# Altium integrated library Capacitor - Aluminium TH.IntLib: 4591 symbols (part 25 of 68)
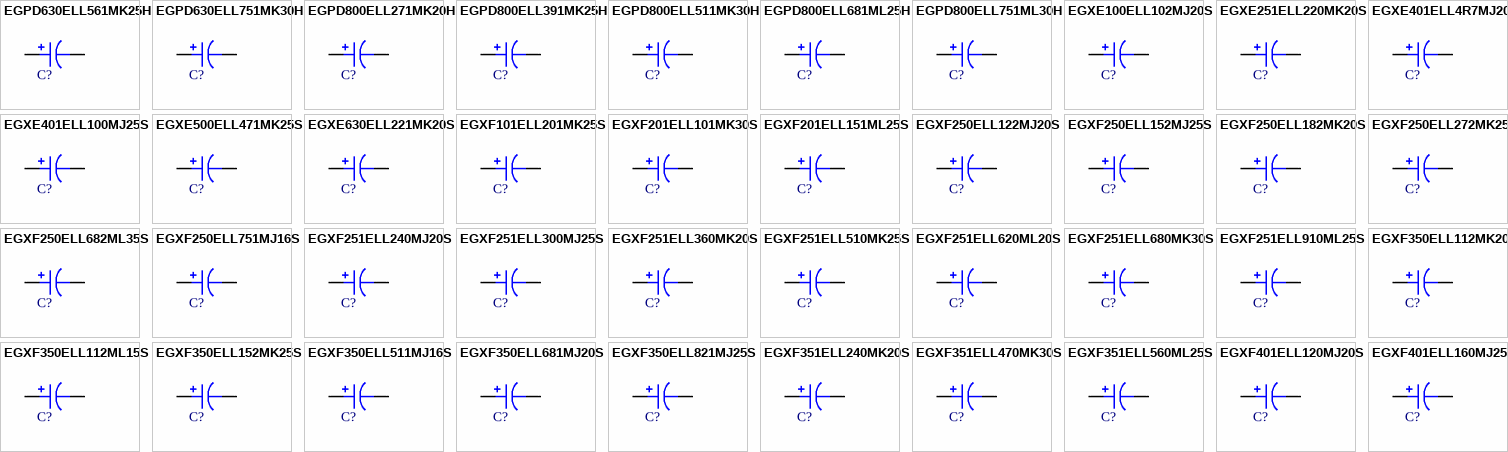
[diagram p138: symbols EGPD630ELL561MK25H to EGXF401ELL160MJ25S]

## EGXF350ELL112MK20S
designator C?, comment 1100uF  (value not drawn)
CAP MINI ALUM ELECTRO; Part Number: EGXF350ELL112MK20S; Manufacturer: United Chemi-Con; TemperatureRange: -40C ~ 125C; Tolerance: 20%; Voltage: 35V; Type: Polar; Ripple Current: 954mA @ 120Hz; Value: 1100uF; PartId: 23063; Supplier 1: Digi-Key; Supplier Part Number 1: 565-4577-ND; ComponentLink1Description: Datasheet; ComponentLink1URL: http://www.chemi-con.co.jp/cgi-bin/CAT_DB/SEARCH/cat_db_al.cgi?e=e&j=p&pdfname=gxf; ComponentLink2Description: Digi-Key Listing; ComponentLink2URL: https://www.digikey.com/product-detail/en/united-chemi-con/EGXF350ELL112MK20S/565-4577-ND/6204428; Price: 0; Device Package: Radial, Can, 12.5mm
footprint CAP AL TH D12.5 L5 H21.5
pins: 1, 2

## EGXF350ELL112ML15S
designator C?, comment 1100uF  (value not drawn)
CAP MINI ALUM ELECTRO; Part Number: EGXF350ELL112ML15S; Manufacturer: United Chemi-Con; TemperatureRange: -40C ~ 125C; Tolerance: 20%; Voltage: 35V; Type: Polar; Ripple Current: 858mA @ 120Hz; Value: 1100uF; PartId: 26224; Supplier 1: Digi-Key; Supplier Part Number 1: 565-4578-ND; ComponentLink1Description: Datasheet; ComponentLink1URL: http://www.chemi-con.co.jp/cgi-bin/CAT_DB/SEARCH/cat_db_al.cgi?e=e&j=p&pdfname=gxf; ComponentLink2Description: Digi-Key Listing; ComponentLink2URL: https://www.digikey.com/product-detail/en/united-chemi-con/EGXF350ELL112ML15S/565-4578-ND/6204429; Price: 1.78; Device Package: Radial, Can, 16mm
footprint CAP AL TH D16 L7.5 H16.5
pins: 1, 2

## EGXF350ELL152MK25S
designator C?, comment 1500uF  (value not drawn)
CAP MINI ALUM ELECTRO; Part Number: EGXF350ELL152MK25S; Manufacturer: United Chemi-Con; TemperatureRange: -40C ~ 125C; Tolerance: 20%; Voltage: 35V; Type: Polar; Ripple Current: 1.368A @ 120Hz; Value: 1500uF; PartId: 23763; Supplier 1: Digi-Key; Supplier Part Number 1: 565-4580-ND; ComponentLink1Description: Datasheet; ComponentLink1URL: http://www.chemi-con.co.jp/cgi-bin/CAT_DB/SEARCH/cat_db_al.cgi?e=e&j=p&pdfname=gxf; ComponentLink2Description: Digi-Key Listing; ComponentLink2URL: https://www.digikey.com/product-detail/en/united-chemi-con/EGXF350ELL152MK25S/565-4580-ND/6204431; Price: 1.79; Device Package: Radial, Can, 12.5mm
footprint CAP AL TH D12.5 L5 H26.5
pins: 1, 2

## EGXF350ELL511MJ16S
designator C?, comment 510uF  (value not drawn)
CAP MINI ALUM ELECTRO; Part Number: EGXF350ELL511MJ16S; Manufacturer: United Chemi-Con; TemperatureRange: -40C ~ 125C; Tolerance: 20%; Voltage: 35V; Type: Polar; Ripple Current: 650mA @ 120Hz; Value: 510uF; PartId: 25426; Supplier 1: Digi-Key; Supplier Part Number 1: 565-4584-ND; ComponentLink1Description: Datasheet; ComponentLink1URL: http://www.chemi-con.co.jp/cgi-bin/CAT_DB/SEARCH/cat_db_al.cgi?e=e&j=p&pdfname=gxf; ComponentLink2Description: Digi-Key Listing; ComponentLink2URL: https://www.digikey.com/product-detail/en/united-chemi-con/EGXF350ELL511MJ16S/565-4584-ND/6204423; Price: 1.09; Device Package: Radial, Can, 10mm
footprint CAP AL TH D10 L5 H17.5
pins: 1, 2

## EGXF350ELL681MJ20S
designator C?, comment 680uF  (value not drawn)
CAP MINI ALUM ELECTRO; Part Number: EGXF350ELL681MJ20S; Manufacturer: United Chemi-Con; TemperatureRange: -40C ~ 125C; Tolerance: 20%; Voltage: 35V; Type: Polar; Ripple Current: 924mA @ 120Hz; Value: 680uF; PartId: 25717; Supplier 1: Digi-Key; Supplier Part Number 1: 565-4586-ND; ComponentLink1Description: Datasheet; ComponentLink1URL: http://www.chemi-con.co.jp/cgi-bin/CAT_DB/SEARCH/cat_db_al.cgi?e=e&j=p&pdfname=gxf; ComponentLink2Description: Digi-Key Listing; ComponentLink2URL: https://www.digikey.com/product-detail/en/united-chemi-con/EGXF350ELL681MJ20S/565-4586-ND/6204425; Price: 1.3; Device Package: Radial, Can, 10mm
footprint CAP AL TH D10 L5 H22
pins: 1, 2

## EGXF350ELL821MJ25S
designator C?, comment 820uF  (value not drawn)
CAP MINI ALUM ELECTRO; Part Number: EGXF350ELL821MJ25S; Manufacturer: United Chemi-Con; TemperatureRange: -40C ~ 125C; Tolerance: 20%; Voltage: 35V; Type: Polar; Ripple Current: 1.128A @ 120Hz; Value: 820uF; PartId: 26191; Supplier 1: Digi-Key; Supplier Part Number 1: 565-4587-ND; ComponentLink1Description: Datasheet; ComponentLink1URL: http://www.chemi-con.co.jp/cgi-bin/CAT_DB/SEARCH/cat_db_al.cgi?e=e&j=p&pdfname=gxf; ComponentLink2Description: Digi-Key Listing; ComponentLink2URL: https://www.digikey.com/product-detail/en/united-chemi-con/EGXF350ELL821MJ25S/565-4587-ND/6204427; Price: 1.36; Device Package: Radial, Can, 10mm
footprint CAP AL TH D10 L5 H30
pins: 1, 2

## EGXF351ELL240MK20S
designator C?, comment 24uF  (value not drawn)
CAP MINI ALUM ELECTRO; Part Number: EGXF351ELL240MK20S; Manufacturer: United Chemi-Con; TemperatureRange: -40C ~ 125C; Tolerance: 20%; Voltage: 350V; Type: Polar; Ripple Current: 204mA @ 120Hz; Value: 24uF; PartId: 23066; Supplier 1: Digi-Key; Supplier Part Number 1: 565-4588-ND; ComponentLink1Description: Datasheet; ComponentLink1URL: http://www.chemi-con.co.jp/cgi-bin/CAT_DB/SEARCH/cat_db_al.cgi?e=e&j=p&pdfname=gxf; ComponentLink2Description: Digi-Key Listing; ComponentLink2URL: https://www.digikey.com/product-detail/en/united-chemi-con/EGXF351ELL240MK20S/565-4588-ND/6204599; Price: 0; Device Package: Radial, Can, 12.5mm
footprint CAP AL TH D12.5 L5 H21.5
pins: 1, 2

## EGXF351ELL470MK30S
designator C?, comment 47uF  (value not drawn)
CAP MINI ALUM ELECTRO; Part Number: EGXF351ELL470MK30S; Manufacturer: United Chemi-Con; TemperatureRange: -40C ~ 125C; Tolerance: 20%; Voltage: 350V; Type: Polar; Ripple Current: 423.5mA @ 120Hz; Value: 47uF; PartId: 24427; Supplier 1: Digi-Key; Supplier Part Number 1: 565-4592-ND; ComponentLink1Description: Datasheet; ComponentLink1URL: http://www.chemi-con.co.jp/cgi-bin/CAT_DB/SEARCH/cat_db_al.cgi?e=e&j=p&pdfname=gxf; ComponentLink2Description: Digi-Key Listing; ComponentLink2URL: https://www.digikey.com/product-detail/en/united-chemi-con/EGXF351ELL470MK30S/565-4592-ND/6204606; Price: 2.46; Device Package: Radial, Can, 12.5mm
footprint CAP AL TH D12.5 L5 H35.5
pins: 1, 2

## EGXF351ELL560ML25S
designator C?, comment 56uF  (value not drawn)
CAP MINI ALUM ELECTRO; Part Number: EGXF351ELL560ML25S; Manufacturer: United Chemi-Con; TemperatureRange: -40C ~ 125C; Tolerance: 20%; Voltage: 350V; Type: Polar; Ripple Current: 395.5mA @ 120Hz; Value: 56uF; PartId: 26725; Supplier 1: Digi-Key; Supplier Part Number 1: 565-4594-ND; ComponentLink1Description: Datasheet; ComponentLink1URL: http://www.chemi-con.co.jp/cgi-bin/CAT_DB/SEARCH/cat_db_al.cgi?e=e&j=p&pdfname=gxf; ComponentLink2Description: Digi-Key Listing; ComponentLink2URL: https://www.digikey.com/product-detail/en/united-chemi-con/EGXF351ELL560ML25S/565-4594-ND/6204609; Price: 2.83; Device Package: Radial, Can, 16mm
footprint CAP AL TH D16 L7.5 H26.5
pins: 1, 2

## EGXF401ELL120MJ20S
designator C?, comment 12uF  (value not drawn)
CAP MINI ALUM ELECTRO; Part Number: EGXF401ELL120MJ20S; Manufacturer: United Chemi-Con; TemperatureRange: -40C ~ 125C; Tolerance: 20%; Voltage: 400V; Type: Polar; Ripple Current: 138mA @ 120Hz; Value: 12uF; PartId: 25718; Supplier 1: Digi-Key; Supplier Part Number 1: 565-4599-ND; ComponentLink1Description: Datasheet; ComponentLink1URL: http://www.chemi-con.co.jp/cgi-bin/CAT_DB/SEARCH/cat_db_al.cgi?e=e&j=p&pdfname=gxf; ComponentLink2Description: Digi-Key Listing; ComponentLink2URL: https://www.digikey.com/product-detail/en/united-chemi-con/EGXF401ELL120MJ20S/565-4599-ND/6204616; Price: 1.31; Device Package: Radial, Can, 10mm
footprint CAP AL TH D10 L5 H22
pins: 1, 2

## EGXF401ELL160MJ25S
designator C?, comment 16uF  (value not drawn)
CAP MINI ALUM ELECTRO; Part Number: EGXF401ELL160MJ25S; Manufacturer: United Chemi-Con; TemperatureRange: -40C ~ 125C; Tolerance: 20%; Voltage: 400V; Type: Polar; Ripple Current: 183mA @ 120Hz; Value: 16uF; PartId: 26195; Supplier 1: Digi-Key; Supplier Part Number 1: 565-4600-ND; ComponentLink1Description: Datasheet; ComponentLink1URL: http://www.chemi-con.co.jp/cgi-bin/CAT_DB/SEARCH/cat_db_al.cgi?e=e&j=p&pdfname=gxf; ComponentLink2Description: Digi-Key Listing; ComponentLink2URL: https://www.digikey.com/product-detail/en/united-chemi-con/EGXF401ELL160MJ25S/565-4600-ND/6204617; Price: 1.46; Device Package: Radial, Can, 10mm
footprint CAP AL TH D10 L5 H30
pins: 1, 2

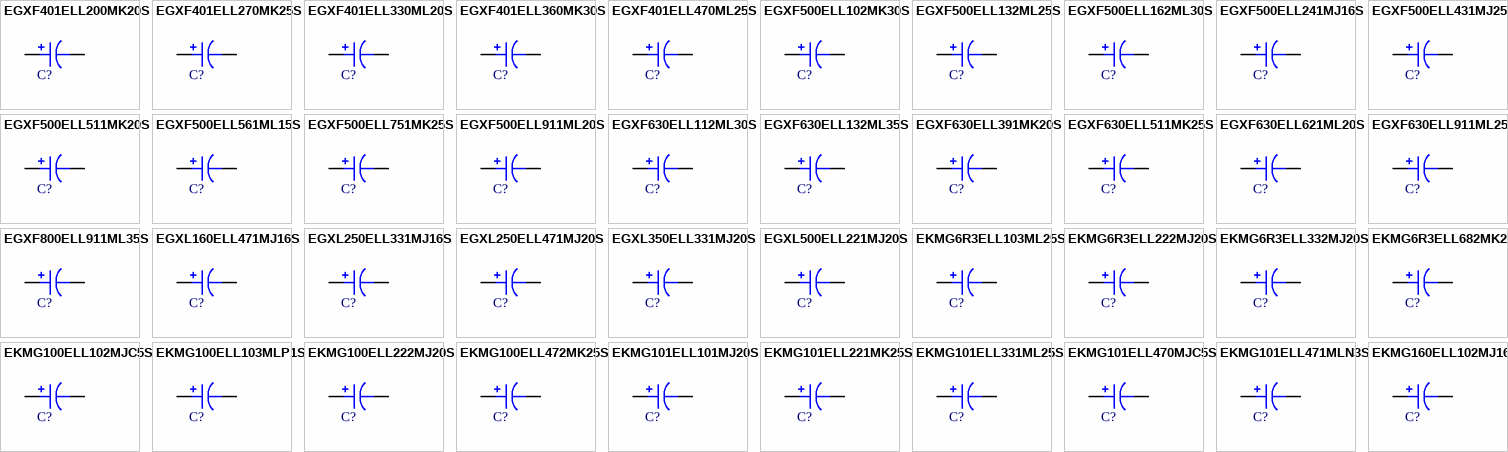
[diagram p40: symbols EGXF401ELL200MK20S to EKMG160ELL102MJ16S]

## EGXF401ELL200MK20S
designator C?, comment 20uF  (value not drawn)
CAP MINI ALUM ELECTRO; Part Number: EGXF401ELL200MK20S; Manufacturer: United Chemi-Con; TemperatureRange: -40C ~ 125C; Tolerance: 20%; Voltage: 400V; Type: Polar; Ripple Current: 204mA @ 120Hz; Value: 20uF; PartId: 23071; Supplier 1: Digi-Key; Supplier Part Number 1: 565-4602-ND; ComponentLink1Description: Datasheet; ComponentLink1URL: http://www.chemi-con.co.jp/cgi-bin/CAT_DB/SEARCH/cat_db_al.cgi?e=e&j=p&pdfname=gxf; ComponentLink2Description: Digi-Key Listing; ComponentLink2URL: https://www.digikey.com/product-detail/en/united-chemi-con/EGXF401ELL200MK20S/565-4602-ND/6204619; Price: 0; Device Package: Radial, Can, 12.5mm
footprint CAP AL TH D12.5 L5 H21.5
pins: 1, 2

## EGXF401ELL270MK25S
designator C?, comment 27uF  (value not drawn)
CAP MINI ALUM ELECTRO; Part Number: EGXF401ELL270MK25S; Manufacturer: United Chemi-Con; TemperatureRange: -40C ~ 125C; Tolerance: 20%; Voltage: 400V; Type: Polar; Ripple Current: 294mA @ 120Hz; Value: 27uF; PartId: 23771; Supplier 1: Digi-Key; Supplier Part Number 1: 565-4605-ND; ComponentLink1Description: Datasheet; ComponentLink1URL: http://www.chemi-con.co.jp/cgi-bin/CAT_DB/SEARCH/cat_db_al.cgi?e=e&j=p&pdfname=gxf; ComponentLink2Description: Digi-Key Listing; ComponentLink2URL: https://www.digikey.com/product-detail/en/united-chemi-con/EGXF401ELL270MK25S/565-4605-ND/6204622; Price: 1.92; Device Package: Radial, Can, 12.5mm
footprint CAP AL TH D12.5 L5 H26.5
pins: 1, 2

## EGXF401ELL330ML20S
designator C?, comment 33uF  (value not drawn)
CAP MINI ALUM ELECTRO; Part Number: EGXF401ELL330ML20S; Manufacturer: United Chemi-Con; TemperatureRange: -40C ~ 125C; Tolerance: 20%; Voltage: 400V; Type: Polar; Ripple Current: 291mA @ 120Hz; Value: 33uF; PartId: 26507; Supplier 1: Digi-Key; Supplier Part Number 1: 565-4607-ND; ComponentLink1Description: Datasheet; ComponentLink1URL: http://www.chemi-con.co.jp/cgi-bin/CAT_DB/SEARCH/cat_db_al.cgi?e=e&j=p&pdfname=gxf; ComponentLink2Description: Digi-Key Listing; ComponentLink2URL: https://www.digikey.com/product-detail/en/united-chemi-con/EGXF401ELL330ML20S/565-4607-ND/6204624; Price: 2.52; Device Package: Radial, Can, 16mm
footprint CAP AL TH D16 L7.5 H22
pins: 1, 2

## EGXF401ELL360MK30S
designator C?, comment 36uF  (value not drawn)
CAP MINI ALUM ELECTRO; Part Number: EGXF401ELL360MK30S; Manufacturer: United Chemi-Con; TemperatureRange: -40C ~ 125C; Tolerance: 20%; Voltage: 400V; Type: Polar; Ripple Current: 423.5mA @ 120Hz; Value: 36uF; PartId: 24422; Supplier 1: Digi-Key; Supplier Part Number 1: 565-4608-ND; ComponentLink1Description: Datasheet; ComponentLink1URL: http://www.chemi-con.co.jp/cgi-bin/CAT_DB/SEARCH/cat_db_al.cgi?e=e&j=p&pdfname=gxf; ComponentLink2Description: Digi-Key Listing; ComponentLink2URL: https://www.digikey.com/product-detail/en/united-chemi-con/EGXF401ELL360MK30S/565-4608-ND/6204625; Price: 2.35; Device Package: Radial, Can, 12.5mm
footprint CAP AL TH D12.5 L5 H35.5
pins: 1, 2

## EGXF401ELL470ML25S
designator C?, comment 47uF  (value not drawn)
CAP MINI ALUM ELECTRO; Part Number: EGXF401ELL470ML25S; Manufacturer: United Chemi-Con; TemperatureRange: -40C ~ 125C; Tolerance: 20%; Voltage: 400V; Type: Polar; Ripple Current: 395.5mA @ 120Hz; Value: 47uF; PartId: 26729; Supplier 1: Digi-Key; Supplier Part Number 1: 565-4612-ND; ComponentLink1Description: Datasheet; ComponentLink1URL: http://www.chemi-con.co.jp/cgi-bin/CAT_DB/SEARCH/cat_db_al.cgi?e=e&j=p&pdfname=gxf; ComponentLink2Description: Digi-Key Listing; ComponentLink2URL: https://www.digikey.com/product-detail/en/united-chemi-con/EGXF401ELL470ML25S/565-4612-ND/6204630; Price: 3.02; Device Package: Radial, Can, 16mm
footprint CAP AL TH D16 L7.5 H26.5
pins: 1, 2

## EGXF500ELL102MK30S
designator C?, comment 1000uF  (value not drawn)
CAP MINI ALUM ELECTRO; Part Number: EGXF500ELL102MK30S; Manufacturer: United Chemi-Con; TemperatureRange: -40C ~ 125C; Tolerance: 20%; Voltage: 50V; Type: Polar; Ripple Current: 1.506A @ 120Hz; Value: 1000uF; PartId: 24416; Supplier 1: Digi-Key; Supplier Part Number 1: 565-4618-ND; ComponentLink1Description: Datasheet; ComponentLink1URL: http://www.chemi-con.co.jp/cgi-bin/CAT_DB/SEARCH/cat_db_al.cgi?e=e&j=p&pdfname=gxf; ComponentLink2Description: Digi-Key Listing; ComponentLink2URL: https://www.digikey.com/product-detail/en/united-chemi-con/EGXF500ELL102MK30S/565-4618-ND/6204464; Price: 2.14; Device Package: Radial, Can, 12.5mm
footprint CAP AL TH D12.5 L5 H35.5
pins: 1, 2

## EGXF500ELL132ML25S
designator C?, comment 1300uF  (value not drawn)
CAP MINI ALUM ELECTRO; Part Number: EGXF500ELL132ML25S; Manufacturer: United Chemi-Con; TemperatureRange: -40C ~ 125C; Tolerance: 20%; Voltage: 50V; Type: Polar; Ripple Current: 1.614A @ 120Hz; Value: 1300uF; PartId: 26719; Supplier 1: Digi-Key; Supplier Part Number 1: 565-4621-ND; ComponentLink1Description: Datasheet; ComponentLink1URL: http://www.chemi-con.co.jp/cgi-bin/CAT_DB/SEARCH/cat_db_al.cgi?e=e&j=p&pdfname=gxf; ComponentLink2Description: Digi-Key Listing; ComponentLink2URL: https://www.digikey.com/product-detail/en/united-chemi-con/EGXF500ELL132ML25S/565-4621-ND/6204469; Price: 2.71; Device Package: Radial, Can, 16mm
footprint CAP AL TH D16 L7.5 H26.5
pins: 1, 2

## EGXF500ELL162ML30S
designator C?, comment 1600uF  (value not drawn)
CAP MINI ALUM ELECTRO; Part Number: EGXF500ELL162ML30S; Manufacturer: United Chemi-Con; TemperatureRange: -40C ~ 125C; Tolerance: 20%; Voltage: 50V; Type: Polar; Ripple Current: 1.89A @ 120Hz; Value: 1600uF; PartId: 27275; Supplier 1: Digi-Key; Supplier Part Number 1: 565-4622-ND; ComponentLink1Description: Datasheet; ComponentLink1URL: http://www.chemi-con.co.jp/cgi-bin/CAT_DB/SEARCH/cat_db_al.cgi?e=e&j=p&pdfname=gxf; ComponentLink2Description: Digi-Key Listing; ComponentLink2URL: https://www.digikey.com/product-detail/en/united-chemi-con/EGXF500ELL162ML30S/565-4622-ND/6204472; Price: 3.12; Device Package: Radial, Can, 16mm
footprint CAP AL TH D16 L7.5 H33.5
pins: 1, 2

## EGXF500ELL241MJ16S
designator C?, comment 240uF  (value not drawn)
CAP MINI ALUM ELECTRO; Part Number: EGXF500ELL241MJ16S; Manufacturer: United Chemi-Con; TemperatureRange: -40C ~ 125C; Tolerance: 20%; Voltage: 50V; Type: Polar; Ripple Current: 432mA @ 120Hz; Value: 240uF; PartId: 25417; Supplier 1: Digi-Key; Supplier Part Number 1: 565-4625-ND; ComponentLink1Description: Datasheet; ComponentLink1URL: http://www.chemi-con.co.jp/cgi-bin/CAT_DB/SEARCH/cat_db_al.cgi?e=e&j=p&pdfname=gxf; ComponentLink2Description: Digi-Key Listing; ComponentLink2URL: https://www.digikey.com/product-detail/en/united-chemi-con/EGXF500ELL241MJ16S/565-4625-ND/6204452; Price: 0.98; Device Package: Radial, Can, 10mm
footprint CAP AL TH D10 L5 H17.5
pins: 1, 2

## EGXF500ELL431MJ25S
designator C?, comment 430uF  (value not drawn)
CAP MINI ALUM ELECTRO; Part Number: EGXF500ELL431MJ25S; Manufacturer: United Chemi-Con; TemperatureRange: -40C ~ 125C; Tolerance: 20%; Voltage: 50V; Type: Polar; Ripple Current: 870mA @ 120Hz; Value: 430uF; PartId: 26192; Supplier 1: Digi-Key; Supplier Part Number 1: 565-4629-ND; ComponentLink1Description: Datasheet; ComponentLink1URL: http://www.chemi-con.co.jp/cgi-bin/CAT_DB/SEARCH/cat_db_al.cgi?e=e&j=p&pdfname=gxf; ComponentLink2Description: Digi-Key Listing; ComponentLink2URL: https://www.digikey.com/product-detail/en/united-chemi-con/EGXF500ELL431MJ25S/565-4629-ND/6204456; Price: 1.38; Device Package: Radial, Can, 10mm
footprint CAP AL TH D10 L5 H30
pins: 1, 2

## EGXF500ELL511MK20S
designator C?, comment 510uF  (value not drawn)
CAP MINI ALUM ELECTRO; Part Number: EGXF500ELL511MK20S; Manufacturer: United Chemi-Con; TemperatureRange: -40C ~ 125C; Tolerance: 20%; Voltage: 50V; Type: Polar; Ripple Current: 705mA @ 120Hz; Value: 510uF; PartId: 23060; Supplier 1: Digi-Key; Supplier Part Number 1: 565-4630-ND; ComponentLink1Description: Datasheet; ComponentLink1URL: http://www.chemi-con.co.jp/cgi-bin/CAT_DB/SEARCH/cat_db_al.cgi?e=e&j=p&pdfname=gxf; ComponentLink2Description: Digi-Key Listing; ComponentLink2URL: https://www.digikey.com/product-detail/en/united-chemi-con/EGXF500ELL511MK20S/565-4630-ND/6204457; Price: 0; Device Package: Radial, Can, 12.5mm
footprint CAP AL TH D12.5 L5 H21.5
pins: 1, 2

## EGXF500ELL561ML15S
designator C?, comment 560uF  (value not drawn)
CAP MINI ALUM ELECTRO; Part Number: EGXF500ELL561ML15S; Manufacturer: United Chemi-Con; TemperatureRange: -40C ~ 125C; Tolerance: 20%; Voltage: 50V; Type: Polar; Ripple Current: 595mA @ 120Hz; Value: 560uF; PartId: 26223; Supplier 1: Digi-Key; Supplier Part Number 1: 565-4632-ND; ComponentLink1Description: Datasheet; ComponentLink1URL: http://www.chemi-con.co.jp/cgi-bin/CAT_DB/SEARCH/cat_db_al.cgi?e=e&j=p&pdfname=gxf; ComponentLink2Description: Digi-Key Listing; ComponentLink2URL: https://www.digikey.com/product-detail/en/united-chemi-con/EGXF500ELL561ML15S/565-4632-ND/6204459; Price: 1.71; Device Package: Radial, Can, 16mm
footprint CAP AL TH D16 L7.5 H16.5
pins: 1, 2

## EGXF500ELL751MK25S
designator C?, comment 750uF  (value not drawn)
CAP MINI ALUM ELECTRO; Part Number: EGXF500ELL751MK25S; Manufacturer: United Chemi-Con; TemperatureRange: -40C ~ 125C; Tolerance: 20%; Voltage: 50V; Type: Polar; Ripple Current: 1.218A @ 120Hz; Value: 750uF; PartId: 23749; Supplier 1: Digi-Key; Supplier Part Number 1: 565-4633-ND; ComponentLink1Description: Datasheet; ComponentLink1URL: http://www.chemi-con.co.jp/cgi-bin/CAT_DB/SEARCH/cat_db_al.cgi?e=e&j=p&pdfname=gxf; ComponentLink2Description: Digi-Key Listing; ComponentLink2URL: https://www.digikey.com/product-detail/en/united-chemi-con/EGXF500ELL751MK25S/565-4633-ND/6204461; Price: 1.72; Device Package: Radial, Can, 12.5mm
footprint CAP AL TH D12.5 L5 H26.5
pins: 1, 2

## EGXF500ELL911ML20S
designator C?, comment 910uF  (value not drawn)
CAP MINI ALUM ELECTRO; Part Number: EGXF500ELL911ML20S; Manufacturer: United Chemi-Con; TemperatureRange: -40C ~ 125C; Tolerance: 20%; Voltage: 50V; Type: Polar; Ripple Current: 1.044A @ 120Hz; Value: 910uF; PartId: 26497; Supplier 1: Digi-Key; Supplier Part Number 1: 565-4635-ND; ComponentLink1Description: Datasheet; ComponentLink1URL: http://www.chemi-con.co.jp/cgi-bin/CAT_DB/SEARCH/cat_db_al.cgi?e=e&j=p&pdfname=gxf; ComponentLink2Description: Digi-Key Listing; ComponentLink2URL: https://www.digikey.com/product-detail/en/united-chemi-con/EGXF500ELL911ML20S/565-4635-ND/6204463; Price: 2.2; Device Package: Radial, Can, 16mm
footprint CAP AL TH D16 L7.5 H22
pins: 1, 2

## EGXF630ELL112ML30S
designator C?, comment 1100uF  (value not drawn)
CAP MINI ALUM ELECTRO; Part Number: EGXF630ELL112ML30S; Manufacturer: United Chemi-Con; TemperatureRange: -40C ~ 125C; Tolerance: 20%; Voltage: 63V; Type: Polar; Ripple Current: 1.764A @ 120Hz; Value: 1100uF; PartId: 27282; Supplier 1: Digi-Key; Supplier Part Number 1: 565-4636-ND; ComponentLink1Description: Datasheet; ComponentLink1URL: http://www.chemi-con.co.jp/cgi-bin/CAT_DB/SEARCH/cat_db_al.cgi?e=e&j=p&pdfname=gxf; ComponentLink2Description: Digi-Key Listing; ComponentLink2URL: https://www.digikey.com/product-detail/en/united-chemi-con/EGXF630ELL112ML30S/565-4636-ND/6204492; Price: 3.2; Device Package: Radial, Can, 16mm
footprint CAP AL TH D16 L7.5 H33.5
pins: 1, 2

## EGXF630ELL132ML35S
designator C?, comment 1300uF  (value not drawn)
CAP MINI ALUM ELECTRO; Part Number: EGXF630ELL132ML35S; Manufacturer: United Chemi-Con; TemperatureRange: -40C ~ 125C; Tolerance: 20%; Voltage: 63V; Type: Polar; Ripple Current: 1.932A @ 120Hz; Value: 1300uF; PartId: 27438; Supplier 1: Digi-Key; Supplier Part Number 1: 565-4638-ND; ComponentLink1Description: Datasheet; ComponentLink1URL: http://www.chemi-con.co.jp/cgi-bin/CAT_DB/SEARCH/cat_db_al.cgi?e=e&j=p&pdfname=gxf; ComponentLink2Description: Digi-Key Listing; ComponentLink2URL: https://www.digikey.com/product-detail/en/united-chemi-con/EGXF630ELL132ML35S/565-4638-ND/6204495; Price: 3.35; Device Package: Radial, Can, 16mm
footprint CAP AL TH D16 L7.5 H37
pins: 1, 2

## EGXF630ELL391MK20S
designator C?, comment 390uF  (value not drawn)
CAP MINI ALUM ELECTRO; Part Number: EGXF630ELL391MK20S; Manufacturer: United Chemi-Con; TemperatureRange: -40C ~ 125C; Tolerance: 20%; Voltage: 63V; Type: Polar; Ripple Current: 655mA @ 120Hz; Value: 390uF; PartId: 23065; Supplier 1: Digi-Key; Supplier Part Number 1: 565-4641-ND; ComponentLink1Description: Datasheet; ComponentLink1URL: http://www.chemi-con.co.jp/cgi-bin/CAT_DB/SEARCH/cat_db_al.cgi?e=e&j=p&pdfname=gxf; ComponentLink2Description: Digi-Key Listing; ComponentLink2URL: https://www.digikey.com/product-detail/en/united-chemi-con/EGXF630ELL391MK20S/565-4641-ND/6204480; Price: 0; Device Package: Radial, Can, 12.5mm
footprint CAP AL TH D12.5 L5 H21.5
pins: 1, 2

## EGXF630ELL511MK25S
designator C?, comment 510uF  (value not drawn)
CAP MINI ALUM ELECTRO; Part Number: EGXF630ELL511MK25S; Manufacturer: United Chemi-Con; TemperatureRange: -40C ~ 125C; Tolerance: 20%; Voltage: 63V; Type: Polar; Ripple Current: 940mA @ 120Hz; Value: 510uF; PartId: 23755; Supplier 1: Digi-Key; Supplier Part Number 1: 565-4642-ND; ComponentLink1Description: Datasheet; ComponentLink1URL: http://www.chemi-con.co.jp/cgi-bin/CAT_DB/SEARCH/cat_db_al.cgi?e=e&j=p&pdfname=gxf; ComponentLink2Description: Digi-Key Listing; ComponentLink2URL: https://www.digikey.com/product-detail/en/united-chemi-con/EGXF630ELL511MK25S/565-4642-ND/6204481; Price: 1.74; Device Package: Radial, Can, 12.5mm
footprint CAP AL TH D12.5 L5 H26.5
pins: 1, 2

## EGXF630ELL621ML20S
designator C?, comment 620uF  (value not drawn)
CAP MINI ALUM ELECTRO; Part Number: EGXF630ELL621ML20S; Manufacturer: United Chemi-Con; TemperatureRange: -40C ~ 125C; Tolerance: 20%; Voltage: 63V; Type: Polar; Ripple Current: 978mA @ 120Hz; Value: 620uF; PartId: 26495; Supplier 1: Digi-Key; Supplier Part Number 1: 565-4643-ND; ComponentLink1Description: Datasheet; ComponentLink1URL: http://www.chemi-con.co.jp/cgi-bin/CAT_DB/SEARCH/cat_db_al.cgi?e=e&j=p&pdfname=gxf; ComponentLink2Description: Digi-Key Listing; ComponentLink2URL: https://www.digikey.com/product-detail/en/united-chemi-con/EGXF630ELL621ML20S/565-4643-ND/6204483; Price: 2.18; Device Package: Radial, Can, 16mm
footprint CAP AL TH D16 L7.5 H22
pins: 1, 2

## EGXF630ELL911ML25S
designator C?, comment 910uF  (value not drawn)
CAP MINI ALUM ELECTRO; Part Number: EGXF630ELL911ML25S; Manufacturer: United Chemi-Con; TemperatureRange: -40C ~ 125C; Tolerance: 20%; Voltage: 63V; Type: Polar; Ripple Current: 1.38A @ 120Hz; Value: 910uF; PartId: 26724; Supplier 1: Digi-Key; Supplier Part Number 1: 565-4646-ND; ComponentLink1Description: Datasheet; ComponentLink1URL: http://www.chemi-con.co.jp/cgi-bin/CAT_DB/SEARCH/cat_db_al.cgi?e=e&j=p&pdfname=gxf; ComponentLink2Description: Digi-Key Listing; ComponentLink2URL: https://www.digikey.com/product-detail/en/united-chemi-con/EGXF630ELL911ML25S/565-4646-ND/6204489; Price: 2.81; Device Package: Radial, Can, 16mm
footprint CAP AL TH D16 L7.5 H26.5
pins: 1, 2

## EGXF800ELL911ML35S
designator C?, comment 910uF  (value not drawn)
CAP MINI ALUM ELECTRO; Part Number: EGXF800ELL911ML35S; Manufacturer: United Chemi-Con; TemperatureRange: -40C ~ 125C; Tolerance: 20%; Voltage: 80V; Type: Polar; Ripple Current: 1.932A @ 120Hz; Value: 910uF; PartId: 27445; Supplier 1: Digi-Key; Supplier Part Number 1: 565-4649-ND; ComponentLink1Description: Datasheet; ComponentLink1URL: http://www.chemi-con.co.jp/cgi-bin/CAT_DB/SEARCH/cat_db_al.cgi?e=e&j=p&pdfname=gxf; ComponentLink2Description: Digi-Key Listing; ComponentLink2URL: https://www.digikey.com/product-detail/en/united-chemi-con/EGXF800ELL911ML35S/565-4649-ND/6204515; Price: 3.66; Device Package: Radial, Can, 16mm
footprint CAP AL TH D16 L7.5 H37
pins: 1, 2

## EGXL160ELL471MJ16S
designator C?, comment 470uF  (value not drawn)
CAP ALUM 470UF 20% 16V RADIAL; Part Number: EGXL160ELL471MJ16S; Manufacturer: United Chemi-Con; TemperatureRange: -40C ~ 125C; Type: Polar; Ripple Current: 525mA @ 120Hz; Impedance: 120 mOhm; Value: 470uF; PartId: 25369; Supplier 1: Digi-Key; Supplier Part Number 1: 565-3446-ND; ComponentLink1Description: Datasheet; ComponentLink1URL: http://www.chemi-con.co.jp/cgi-bin/CAT_DB/SEARCH/cat_db_al.cgi?e=e&j=p&pdfname=gxl; ComponentLink2Description: Digi-Key Listing; ComponentLink2URL: https://www.digikey.com/product-detail/en/united-chemi-con/EGXL160ELL471MJ16S/565-3446-ND/3528648; Tolerance: 20%; Voltage: 16V; Price: 0.72; Device Package: Radial, Can, 10mm
footprint CAP AL TH D10 L5 H17.5
pins: 1, 2

## EGXL250ELL331MJ16S
designator C?, comment 330uF  (value not drawn)
CAP ALUM 330UF 20% 25V RADIAL; Part Number: EGXL250ELL331MJ16S; Manufacturer: United Chemi-Con; TemperatureRange: -40C ~ 125C; Type: Polar; Ripple Current: 525mA @ 120Hz; Impedance: 120 mOhm; Value: 330uF; PartId: 25373; Supplier 1: Digi-Key; Supplier Part Number 1: 565-3448-ND; ComponentLink1Description: Datasheet; ComponentLink1URL: http://www.chemi-con.co.jp/cgi-bin/CAT_DB/SEARCH/cat_db_al.cgi?e=e&j=p&pdfname=gxl; ComponentLink2Description: Digi-Key Listing; ComponentLink2URL: https://www.digikey.com/product-detail/en/united-chemi-con/EGXL250ELL331MJ16S/565-3448-ND/3528654; Tolerance: 20%; Voltage: 25V; Price: 0.73; Device Package: Radial, Can, 10mm
footprint CAP AL TH D10 L5 H17.5
pins: 1, 2

## EGXL250ELL471MJ20S
designator C?, comment 470uF  (value not drawn)
CAP ALUM 470UF 20% 25V RADIAL; Part Number: EGXL250ELL471MJ20S; Manufacturer: United Chemi-Con; TemperatureRange: -40C ~ 125C; Type: Polar; Ripple Current: 650mA @ 120Hz; Impedance: 94 mOhm; Value: 470uF; PartId: 25589; Supplier 1: Digi-Key; Supplier Part Number 1: 565-3449-ND; ComponentLink1Description: Datasheet; ComponentLink1URL: http://www.chemi-con.co.jp/cgi-bin/CAT_DB/SEARCH/cat_db_al.cgi?e=e&j=p&pdfname=gxl; ComponentLink2Description: Digi-Key Listing; ComponentLink2URL: https://www.digikey.com/product-detail/en/united-chemi-con/EGXL250ELL471MJ20S/565-3449-ND/3528655; Tolerance: 20%; Voltage: 25V; Price: 0.68; Device Package: Radial, Can, 10mm
footprint CAP AL TH D10 L5 H22
pins: 1, 2

## EGXL350ELL331MJ20S
designator C?, comment 330uF  (value not drawn)
CAP ALUM 330UF 20% 35V RADIAL; Part Number: EGXL350ELL331MJ20S; Manufacturer: United Chemi-Con; TemperatureRange: -40C ~ 125C; Type: Polar; Ripple Current: 650mA @ 120Hz; Impedance: 94 mOhm; Value: 330uF; PartId: 25624; Supplier 1: Digi-Key; Supplier Part Number 1: 565-3451-ND; ComponentLink1Description: Datasheet; ComponentLink1URL: http://www.chemi-con.co.jp/cgi-bin/CAT_DB/SEARCH/cat_db_al.cgi?e=e&j=p&pdfname=gxl; ComponentLink2Description: Digi-Key Listing; ComponentLink2URL: https://www.digikey.com/product-detail/en/united-chemi-con/EGXL350ELL331MJ20S/565-3451-ND/3528660; Tolerance: 20%; Voltage: 35V; Price: 0.71; Device Package: Radial, Can, 10mm
footprint CAP AL TH D10 L5 H22
pins: 1, 2

## EGXL500ELL221MJ20S
designator C?, comment 220uF  (value not drawn)
CAP ALUM 220UF 20% 50V RADIAL; Part Number: EGXL500ELL221MJ20S; Manufacturer: United Chemi-Con; TemperatureRange: -40C ~ 125C; Type: Polar; Ripple Current: 485mA @ 120Hz; Impedance: 190 mOhm; Value: 220uF; PartId: 25563; Supplier 1: Digi-Key; Supplier Part Number 1: 565-3452-ND; ComponentLink1Description: Datasheet; ComponentLink1URL: http://www.chemi-con.co.jp/cgi-bin/CAT_DB/SEARCH/cat_db_al.cgi?e=e&j=p&pdfname=gxl; ComponentLink2Description: Digi-Key Listing; ComponentLink2URL: https://www.digikey.com/product-detail/en/united-chemi-con/EGXL500ELL221MJ20S/565-3452-ND/3528668; Tolerance: 20%; Voltage: 50V; Price: 0.65; Device Package: Radial, Can, 10mm
footprint CAP AL TH D10 L5 H22
pins: 1, 2

## EKMG6R3ELL103ML25S
designator C?, comment 10000uF  (value not drawn)
CAP ALUM 10000UF 20% 6.3V RADIAL; Part Number: EKMG6R3ELL103ML25S; Manufacturer: United Chemi-Con; TemperatureRange: -55C ~ 105C; Type: Polar; Ripple Current: 1.65A @ 120Hz; Value: 10000uF; PartId: 26625; Supplier 1: Digi-Key; Supplier Part Number 1: 565-1272-ND; ComponentLink1Description: Datasheet; ComponentLink1URL: http://www.chemi-con.co.jp/cgi-bin/CAT_DB/SEARCH/cat_db_al.cgi?e=e&j=p&pdfname=kmg; ComponentLink2Description: Digi-Key Listing; ComponentLink2URL: https://www.digikey.com/product-detail/en/united-chemi-con/EKMG6R3ELL103ML25S/565-1272-ND/755788; Tolerance: 20%; Voltage: 6.3V; Price: 1.43; Device Package: Radial, Can, 16mm
footprint CAP AL TH D16 L7.5 H26.5
pins: 1, 2

## EKMG6R3ELL222MJ20S
designator C?, comment 2200uF  (value not drawn)
CAP ALUM 2200UF 20% 6.3V RADIAL; Part Number: EKMG6R3ELL222MJ20S; Manufacturer: United Chemi-Con; TemperatureRange: -55C ~ 105C; Type: Polar; Ripple Current: 710mA @ 120Hz; Value: 2200uF; PartId: 25553; Supplier 1: Digi-Key; Supplier Part Number 1: 565-1268-ND; ComponentLink1Description: Datasheet; ComponentLink1URL: http://www.chemi-con.co.jp/cgi-bin/CAT_DB/SEARCH/cat_db_al.cgi?e=e&j=p&pdfname=kmg; ComponentLink2Description: Digi-Key Listing; ComponentLink2URL: https://www.digikey.com/product-detail/en/united-chemi-con/EKMG6R3ELL222MJ20S/565-1268-ND/755784; Tolerance: 20%; Voltage: 6.3V; Price: 0.64; Device Package: Radial, Can, 10mm
footprint CAP AL TH D10 L5 H22
pins: 1, 2

## EKMG6R3ELL332MJ20S
designator C?, comment 3300uF  (value not drawn)
CAP ALUM 3300UF 20% 6.3V RADIAL; Part Number: EKMG6R3ELL332MJ20S; Manufacturer: United Chemi-Con; TemperatureRange: -55C ~ 105C; Type: Polar; Ripple Current: 840mA @ 120Hz; Value: 3300uF; PartId: 25614; Supplier 1: Digi-Key; Supplier Part Number 1: 565-1269-ND; ComponentLink1Description: Datasheet; ComponentLink1URL: http://www.chemi-con.co.jp/cgi-bin/CAT_DB/SEARCH/cat_db_al.cgi?e=e&j=p&pdfname=kmg; ComponentLink2Description: Digi-Key Listing; ComponentLink2URL: https://www.digikey.com/product-detail/en/united-chemi-con/EKMG6R3ELL332MJ20S/565-1269-ND/755785; Tolerance: 20%; Voltage: 6.3V; Price: 0.7; Device Package: Radial, Can, 10mm
footprint CAP AL TH D10 L5 H22
pins: 1, 2

## EKMG6R3ELL682MK25S
designator C?, comment 6800uF  (value not drawn)
CAP ALUM 6800UF 20% 6.3V RADIAL; Part Number: EKMG6R3ELL682MK25S; Manufacturer: United Chemi-Con; TemperatureRange: -55C ~ 105C; Type: Polar; Ripple Current: 1.35A @ 120Hz; Value: 6800uF; PartId: 23677; Supplier 1: Digi-Key; Supplier Part Number 1: 565-1271-ND; ComponentLink1Description: Datasheet; ComponentLink1URL: http://www.chemi-con.co.jp/cgi-bin/CAT_DB/SEARCH/cat_db_al.cgi?e=e&j=p&pdfname=kmg; ComponentLink2Description: Digi-Key Listing; ComponentLink2URL: https://www.digikey.com/product-detail/en/united-chemi-con/EKMG6R3ELL682MK25S/565-1271-ND/755787; Tolerance: 20%; Voltage: 6.3V; Price: 1.01; Device Package: Radial, Can, 12.5mm
footprint CAP AL TH D12.5 L5 H26.5
pins: 1, 2

## EKMG100ELL102MJC5S
designator C?, comment 1000uF  (value not drawn)
CAP ALUM 1000UF 20% 10V RADIAL; Part Number: EKMG100ELL102MJC5S; Manufacturer: United Chemi-Con; TemperatureRange: -55C ~ 105C; Type: Polar; Ripple Current: 460mA @ 120Hz; Value: 1000uF; PartId: 24976; Supplier 1: Digi-Key; Supplier Part Number 1: 565-1281-ND; ComponentLink1Description: Datasheet; ComponentLink1URL: http://www.chemi-con.co.jp/cgi-bin/CAT_DB/SEARCH/cat_db_al.cgi?e=e&j=p&pdfname=kmg; ComponentLink2Description: Digi-Key Listing; ComponentLink2URL: https://www.digikey.com/product-detail/en/united-chemi-con/EKMG100ELL102MJC5S/565-1281-ND/755797; Tolerance: 20%; Voltage: 10V; Price: 0.54; Device Package: Radial, Can, 10mm
footprint CAP AL TH D10 L5 H14.5
pins: 1, 2

## EKMG100ELL103MLP1S
designator C?, comment 10000uF  (value not drawn)
CAP ALUM 10000UF 20% 10V RADIAL; Part Number: EKMG100ELL103MLP1S; Manufacturer: United Chemi-Con; TemperatureRange: -55C ~ 105C; Type: Polar; Ripple Current: 1.89A @ 120Hz; Value: 10000uF; PartId: 27373; Supplier 1: Digi-Key; Supplier Part Number 1: 565-1286-ND; ComponentLink1Description: Datasheet; ComponentLink1URL: http://www.chemi-con.co.jp/cgi-bin/CAT_DB/SEARCH/cat_db_al.cgi?e=e&j=p&pdfname=kmg; ComponentLink2Description: Digi-Key Listing; ComponentLink2URL: https://www.digikey.com/product-detail/en/united-chemi-con/EKMG100ELL103MLP1S/565-1286-ND/755802; Tolerance: 20%; Voltage: 10V; Price: 1.81; Device Package: Radial, Can, 16mm
footprint CAP AL TH D16 L7.5 H37
pins: 1, 2

## EKMG100ELL222MJ20S
designator C?, comment 2200uF  (value not drawn)
CAP ALUM 2200UF 20% 10V RADIAL; Part Number: EKMG100ELL222MJ20S; Manufacturer: United Chemi-Con; TemperatureRange: -55C ~ 105C; Type: Polar; Ripple Current: 760mA @ 120Hz; Value: 2200uF; PartId: 25591; Supplier 1: Digi-Key; Supplier Part Number 1: 565-1282-ND; ComponentLink1Description: Datasheet; ComponentLink1URL: http://www.chemi-con.co.jp/cgi-bin/CAT_DB/SEARCH/cat_db_al.cgi?e=e&j=p&pdfname=kmg; ComponentLink2Description: Digi-Key Listing; ComponentLink2URL: https://www.digikey.com/product-detail/en/united-chemi-con/EKMG100ELL222MJ20S/565-1282-ND/755798; Tolerance: 20%; Voltage: 10V; Price: 0.68; Device Package: Radial, Can, 10mm
footprint CAP AL TH D10 L5 H22
pins: 1, 2

## EKMG100ELL472MK25S
designator C?, comment 4700uF  (value not drawn)
CAP ALUM 4700UF 20% 10V RADIAL; Part Number: EKMG100ELL472MK25S; Manufacturer: United Chemi-Con; TemperatureRange: -55C ~ 105C; Type: Polar; Ripple Current: 1.26A @ 120Hz; Value: 4700uF; PartId: 23672; Supplier 1: Digi-Key; Supplier Part Number 1: 565-1284-ND; ComponentLink1Description: Datasheet; ComponentLink1URL: http://www.chemi-con.co.jp/cgi-bin/CAT_DB/SEARCH/cat_db_al.cgi?e=e&j=p&pdfname=kmg; ComponentLink2Description: Digi-Key Listing; ComponentLink2URL: https://www.digikey.com/product-detail/en/united-chemi-con/EKMG100ELL472MK25S/565-1284-ND/755800; Tolerance: 20%; Voltage: 10V; Price: 0.99; Device Package: Radial, Can, 12.5mm
footprint CAP AL TH D12.5 L5 H26.5
pins: 1, 2

## EKMG101ELL101MJ20S
designator C?, comment 100uF  (value not drawn)
CAP ALUM 100UF 20% 100V RADIAL; Part Number: EKMG101ELL101MJ20S; Manufacturer: United Chemi-Con; TemperatureRange: -55C ~ 105C; Type: Polar; Ripple Current: 265mA @ 120Hz; Value: 100uF; PartId: 25593; Supplier 1: Digi-Key; Supplier Part Number 1: 565-1368-ND; ComponentLink1Description: Datasheet; ComponentLink1URL: http://www.chemi-con.co.jp/cgi-bin/CAT_DB/SEARCH/cat_db_al.cgi?e=e&j=p&pdfname=kmg; ComponentLink2Description: Digi-Key Listing; ComponentLink2URL: https://www.digikey.com/product-detail/en/united-chemi-con/EKMG101ELL101MJ20S/565-1368-ND/755884; Tolerance: 20%; Voltage: 100V; Price: 0.68; Device Package: Radial, Can, 10mm
footprint CAP AL TH D10 L5 H22
pins: 1, 2

## EKMG101ELL221MK25S
designator C?, comment 220uF  (value not drawn)
CAP ALUM 220UF 20% 100V RADIAL; Part Number: EKMG101ELL221MK25S; Manufacturer: United Chemi-Con; TemperatureRange: -55C ~ 105C; Type: Polar; Ripple Current: 440mA @ 120Hz; Value: 220uF; PartId: 23676; Supplier 1: Digi-Key; Supplier Part Number 1: 565-1369-ND; ComponentLink1Description: Datasheet; ComponentLink1URL: http://www.chemi-con.co.jp/cgi-bin/CAT_DB/SEARCH/cat_db_al.cgi?e=e&j=p&pdfname=kmg; ComponentLink2Description: Digi-Key Listing; ComponentLink2URL: https://www.digikey.com/product-detail/en/united-chemi-con/EKMG101ELL221MK25S/565-1369-ND/755885; Tolerance: 20%; Voltage: 100V; Price: 1.01; Device Package: Radial, Can, 12.5mm
footprint CAP AL TH D12.5 L5 H26.5
pins: 1, 2

## EKMG101ELL331ML25S
designator C?, comment 330uF  (value not drawn)
CAP ALUM 330UF 20% 100V RADIAL; Part Number: EKMG101ELL331ML25S; Manufacturer: United Chemi-Con; TemperatureRange: -55C ~ 105C; Type: Polar; Ripple Current: 540mA @ 120Hz; Value: 330uF; PartId: 26621; Supplier 1: Digi-Key; Supplier Part Number 1: 565-1370-ND; ComponentLink1Description: Datasheet; ComponentLink1URL: http://www.chemi-con.co.jp/cgi-bin/CAT_DB/SEARCH/cat_db_al.cgi?e=e&j=p&pdfname=kmg; ComponentLink2Description: Digi-Key Listing; ComponentLink2URL: https://www.digikey.com/product-detail/en/united-chemi-con/EKMG101ELL331ML25S/565-1370-ND/755886; Tolerance: 20%; Voltage: 100V; Price: 1.41; Device Package: Radial, Can, 16mm
footprint CAP AL TH D16 L7.5 H26.5
pins: 1, 2

## EKMG101ELL470MJC5S
designator C?, comment 47uF  (value not drawn)
CAP ALUM 47UF 20% 100V RADIAL; Part Number: EKMG101ELL470MJC5S; Manufacturer: United Chemi-Con; TemperatureRange: -55C ~ 105C; Type: Polar; Ripple Current: 165mA @ 120Hz; Value: 47uF; PartId: 24975; Supplier 1: Digi-Key; Supplier Part Number 1: 565-1367-ND; ComponentLink1Description: Datasheet; ComponentLink1URL: http://www.chemi-con.co.jp/cgi-bin/CAT_DB/SEARCH/cat_db_al.cgi?e=e&j=p&pdfname=kmg; ComponentLink2Description: Digi-Key Listing; ComponentLink2URL: https://www.digikey.com/product-detail/en/united-chemi-con/EKMG101ELL470MJC5S/565-1367-ND/755883; Tolerance: 20%; Voltage: 100V; Price: 0.54; Device Package: Radial, Can, 10mm
footprint CAP AL TH D10 L5 H14.5
pins: 1, 2

## EKMG101ELL471MLN3S
designator C?, comment 470uF  (value not drawn)
CAP ALUM 470UF 20% 100V RADIAL; Part Number: EKMG101ELL471MLN3S; Manufacturer: United Chemi-Con; TemperatureRange: -55C ~ 105C; Type: Polar; Ripple Current: 715mA @ 120Hz; Value: 470uF; PartId: 27100; Supplier 1: Digi-Key; Supplier Part Number 1: 565-1371-ND; ComponentLink1Description: Datasheet; ComponentLink1URL: http://www.chemi-con.co.jp/cgi-bin/CAT_DB/SEARCH/cat_db_al.cgi?e=e&j=p&pdfname=kmg; ComponentLink2Description: Digi-Key Listing; ComponentLink2URL: https://www.digikey.com/product-detail/en/united-chemi-con/EKMG101ELL471MLN3S/565-1371-ND/755887; Tolerance: 20%; Voltage: 100V; Price: 1.74; Device Package: Radial, Can, 16mm
footprint CAP AL TH D16 L7.5 H33.5
pins: 1, 2

## EKMG160ELL102MJ16S
designator C?, comment 1000uF  (value not drawn)
CAP ALUM 1000UF 20% 16V RADIAL; Part Number: EKMG160ELL102MJ16S; Manufacturer: United Chemi-Con; TemperatureRange: -55C ~ 105C; Type: Polar; Ripple Current: 560mA @ 120Hz; Value: 1000uF; PartId: 25252; Supplier 1: Digi-Key; Supplier Part Number 1: 565-1296-ND; ComponentLink1Description: Datasheet; ComponentLink1URL: http://www.chemi-con.co.jp/cgi-bin/CAT_DB/SEARCH/cat_db_al.cgi?e=e&j=p&pdfname=kmg; ComponentLink2Description: Digi-Key Listing; ComponentLink2URL: https://www.digikey.com/product-detail/en/united-chemi-con/EKMG160ELL102MJ16S/565-1296-ND/755812; Tolerance: 20%; Voltage: 16V; Price: 0.58; Device Package: Radial, Can, 10mm
footprint CAP AL TH D10 L5 H17.5
pins: 1, 2

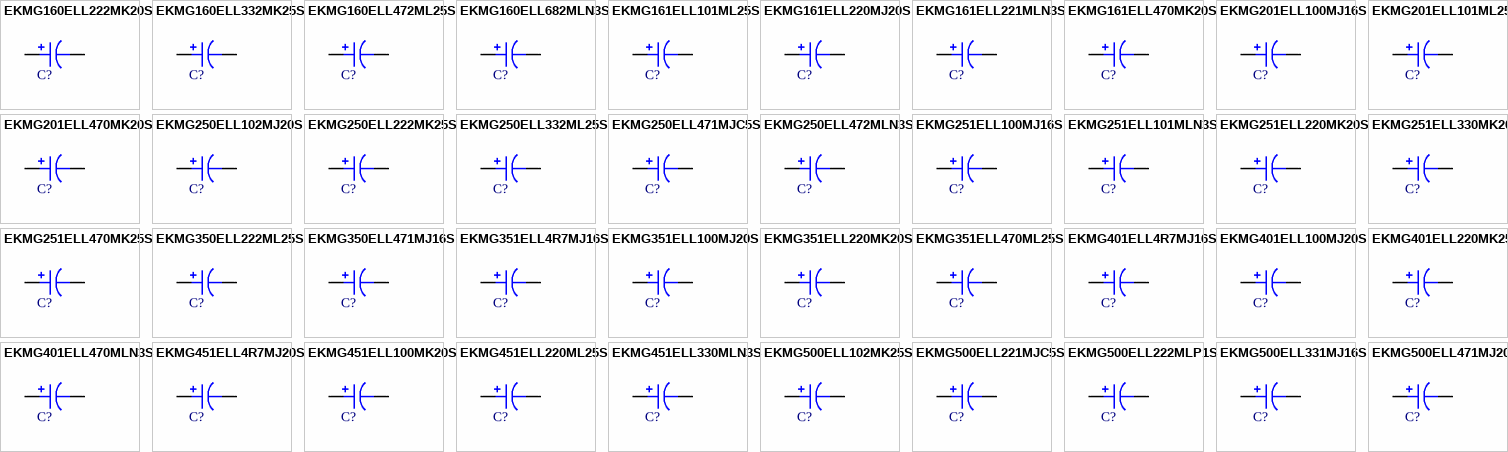
[diagram p41: symbols EKMG160ELL222MK20S to EKMG500ELL471MJ20S]

## EKMG160ELL222MK20S
designator C?, comment 2200uF  (value not drawn)
CAP ALUM 2200UF 20% 16V RADIAL; Part Number: EKMG160ELL222MK20S; Manufacturer: United Chemi-Con; TemperatureRange: -55C ~ 105C; Type: Polar; Ripple Current: 920mA @ 120Hz; Value: 2200uF; PartId: 22968; Supplier 1: Digi-Key; Supplier Part Number 1: 565-1297-ND; ComponentLink1Description: Datasheet; ComponentLink1URL: http://www.chemi-con.co.jp/cgi-bin/CAT_DB/SEARCH/cat_db_al.cgi?e=e&j=p&pdfname=kmg; ComponentLink2Description: Digi-Key Listing; ComponentLink2URL: https://www.digikey.com/product-detail/en/united-chemi-con/EKMG160ELL222MK20S/565-1297-ND/755813; Tolerance: 20%; Voltage: 16V; Price: 0; Device Package: Radial, Can, 12.5mm
footprint CAP AL TH D12.5 L5 H21.5
pins: 1, 2

## EKMG160ELL332MK25S
designator C?, comment 3300uF  (value not drawn)
CAP ALUM 3300UF 20% 16V RADIAL; Part Number: EKMG160ELL332MK25S; Manufacturer: United Chemi-Con; TemperatureRange: -55C ~ 105C; Type: Polar; Ripple Current: 1.17A @ 120Hz; Value: 3300uF; PartId: 23667; Supplier 1: Digi-Key; Supplier Part Number 1: 565-1298-ND; ComponentLink1Description: Datasheet; ComponentLink1URL: http://www.chemi-con.co.jp/cgi-bin/CAT_DB/SEARCH/cat_db_al.cgi?e=e&j=p&pdfname=kmg; ComponentLink2Description: Digi-Key Listing; ComponentLink2URL: https://www.digikey.com/product-detail/en/united-chemi-con/EKMG160ELL332MK25S/565-1298-ND/755814; Tolerance: 20%; Voltage: 16V; Price: 0.97; Device Package: Radial, Can, 12.5mm
footprint CAP AL TH D12.5 L5 H26.5
pins: 1, 2

## EKMG160ELL472ML25S
designator C?, comment 4700uF  (value not drawn)
CAP ALUM 4700UF 20% 16V RADIAL; Part Number: EKMG160ELL472ML25S; Manufacturer: United Chemi-Con; TemperatureRange: -55C ~ 105C; Type: Polar; Ripple Current: 1.48A @ 120Hz; Value: 4700uF; PartId: 26583; Supplier 1: Digi-Key; Supplier Part Number 1: 565-1299-ND; ComponentLink1Description: Datasheet; ComponentLink1URL: http://www.chemi-con.co.jp/cgi-bin/CAT_DB/SEARCH/cat_db_al.cgi?e=e&j=p&pdfname=kmg; ComponentLink2Description: Digi-Key Listing; ComponentLink2URL: https://www.digikey.com/product-detail/en/united-chemi-con/EKMG160ELL472ML25S/565-1299-ND/755815; Tolerance: 20%; Voltage: 16V; Price: 1.24; Device Package: Radial, Can, 16mm
footprint CAP AL TH D16 L7.5 H26.5
pins: 1, 2

## EKMG160ELL682MLN3S
designator C?, comment 6800uF  (value not drawn)
CAP ALUM 6800UF 20% 16V RADIAL; Part Number: EKMG160ELL682MLN3S; Manufacturer: United Chemi-Con; TemperatureRange: -55C ~ 105C; Type: Polar; Ripple Current: 1.78A @ 120Hz; Value: 6800uF; PartId: 27082; Supplier 1: Digi-Key; Supplier Part Number 1: 565-1300-ND; ComponentLink1Description: Datasheet; ComponentLink1URL: http://www.chemi-con.co.jp/cgi-bin/CAT_DB/SEARCH/cat_db_al.cgi?e=e&j=p&pdfname=kmg; ComponentLink2Description: Digi-Key Listing; ComponentLink2URL: https://www.digikey.com/product-detail/en/united-chemi-con/EKMG160ELL682MLN3S/565-1300-ND/755816; Tolerance: 20%; Voltage: 16V; Price: 1.68; Device Package: Radial, Can, 16mm
footprint CAP AL TH D16 L7.5 H33.5
pins: 1, 2

## EKMG161ELL101ML25S
designator C?, comment 100uF  (value not drawn)
CAP ALUM 100UF 20% 160V RADIAL; Part Number: EKMG161ELL101ML25S; Manufacturer: United Chemi-Con; TemperatureRange: -40C ~ 105C; Type: Polar; Ripple Current: 335mA @ 120Hz; Value: 100uF; PartId: 26638; Supplier 1: Digi-Key; Supplier Part Number 1: 565-1379-ND; ComponentLink1Description: Datasheet; ComponentLink1URL: http://www.chemi-con.co.jp/cgi-bin/CAT_DB/SEARCH/cat_db_al.cgi?e=e&j=p&pdfname=kmg; ComponentLink2Description: Digi-Key Listing; ComponentLink2URL: https://www.digikey.com/product-detail/en/united-chemi-con/EKMG161ELL101ML25S/565-1379-ND/755895; Tolerance: 20%; Voltage: 160V; Price: 1.49; Device Package: Radial, Can, 16mm
footprint CAP AL TH D16 L7.5 H26.5
pins: 1, 2

## EKMG161ELL220MJ20S
designator C?, comment 22uF  (value not drawn)
CAP ALUM 22UF 20% 160V RADIAL; Part Number: EKMG161ELL220MJ20S; Manufacturer: United Chemi-Con; TemperatureRange: -40C ~ 105C; Type: Polar; Ripple Current: 120mA @ 120Hz; Value: 22uF; PartId: 25665; Supplier 1: Digi-Key; Supplier Part Number 1: 565-1376-ND; ComponentLink1Description: Datasheet; ComponentLink1URL: http://www.chemi-con.co.jp/cgi-bin/CAT_DB/SEARCH/cat_db_al.cgi?e=e&j=p&pdfname=kmg; ComponentLink2Description: Digi-Key Listing; ComponentLink2URL: https://www.digikey.com/product-detail/en/united-chemi-con/EKMG161ELL220MJ20S/565-1376-ND/755892; Tolerance: 20%; Voltage: 160V; Price: 0.76; Device Package: Radial, Can, 10mm
footprint CAP AL TH D10 L5 H22
pins: 1, 2

## EKMG161ELL221MLN3S
designator C?, comment 220uF  (value not drawn)
CAP ALUM 220UF 20% 160V RADIAL; Part Number: EKMG161ELL221MLN3S; Manufacturer: United Chemi-Con; TemperatureRange: -40C ~ 105C; Type: Polar; Ripple Current: 540mA @ 120Hz; Value: 220uF; PartId: 27149; Supplier 1: Digi-Key; Supplier Part Number 1: 565-1380-ND; ComponentLink1Description: Datasheet; ComponentLink1URL: http://www.chemi-con.co.jp/cgi-bin/CAT_DB/SEARCH/cat_db_al.cgi?e=e&j=p&pdfname=kmg; ComponentLink2Description: Digi-Key Listing; ComponentLink2URL: https://www.digikey.com/product-detail/en/united-chemi-con/EKMG161ELL221MLN3S/565-1380-ND/755896; Tolerance: 20%; Voltage: 160V; Price: 1.84; Device Package: Radial, Can, 16mm
footprint CAP AL TH D16 L7.5 H33.5
pins: 1, 2

## EKMG161ELL470MK20S
designator C?, comment 47uF  (value not drawn)
CAP ALUM 47UF 20% 160V RADIAL; Part Number: EKMG161ELL470MK20S; Manufacturer: United Chemi-Con; TemperatureRange: -40C ~ 105C; Type: Polar; Ripple Current: 195mA @ 120Hz; Value: 47uF; PartId: 22994; Supplier 1: Digi-Key; Supplier Part Number 1: 565-1378-ND; ComponentLink1Description: Datasheet; ComponentLink1URL: http://www.chemi-con.co.jp/cgi-bin/CAT_DB/SEARCH/cat_db_al.cgi?e=e&j=p&pdfname=kmg; ComponentLink2Description: Digi-Key Listing; ComponentLink2URL: https://www.digikey.com/product-detail/en/united-chemi-con/EKMG161ELL470MK20S/565-1378-ND/755894; Tolerance: 20%; Voltage: 160V; Price: 0; Device Package: Radial, Can, 12.5mm
footprint CAP AL TH D12.5 L5 H21.5
pins: 1, 2

## EKMG201ELL100MJ16S
designator C?, comment 10uF  (value not drawn)
CAP ALUM 10UF 20% 200V RADIAL; Part Number: EKMG201ELL100MJ16S; Manufacturer: United Chemi-Con; TemperatureRange: -40C ~ 105C; Type: Polar; Ripple Current: 74mA @ 120Hz; Value: 10uF; PartId: 25321; Supplier 1: Digi-Key; Supplier Part Number 1: 565-1384-ND; ComponentLink1Description: Datasheet; ComponentLink1URL: http://www.chemi-con.co.jp/cgi-bin/CAT_DB/SEARCH/cat_db_al.cgi?e=e&j=p&pdfname=kmg; ComponentLink2Description: Digi-Key Listing; ComponentLink2URL: https://www.digikey.com/product-detail/en/united-chemi-con/EKMG201ELL100MJ16S/565-1384-ND/755900; Tolerance: 20%; Voltage: 200V; Price: 0.66; Device Package: Radial, Can, 10mm
footprint CAP AL TH D10 L5 H17.5
pins: 1, 2

## EKMG201ELL101ML25S
designator C?, comment 100uF  (value not drawn)
CAP ALUM 100UF 20% 200V RADIAL; Part Number: EKMG201ELL101ML25S; Manufacturer: United Chemi-Con; TemperatureRange: -40C ~ 105C; Type: Polar; Ripple Current: 335mA @ 120Hz; Value: 100uF; PartId: 26640; Supplier 1: Digi-Key; Supplier Part Number 1: 565-1388-ND; ComponentLink1Description: Datasheet; ComponentLink1URL: http://www.chemi-con.co.jp/cgi-bin/CAT_DB/SEARCH/cat_db_al.cgi?e=e&j=p&pdfname=kmg; ComponentLink2Description: Digi-Key Listing; ComponentLink2URL: https://www.digikey.com/product-detail/en/united-chemi-con/EKMG201ELL101ML25S/565-1388-ND/755904; Tolerance: 20%; Voltage: 200V; Price: 1.51; Device Package: Radial, Can, 16mm
footprint CAP AL TH D16 L7.5 H26.5
pins: 1, 2

## EKMG201ELL470MK20S
designator C?, comment 47uF  (value not drawn)
CAP ALUM 47UF 20% 200V RADIAL; Part Number: EKMG201ELL470MK20S; Manufacturer: United Chemi-Con; TemperatureRange: -40C ~ 105C; Type: Polar; Ripple Current: 195mA @ 120Hz; Value: 47uF; PartId: 23002; Supplier 1: Digi-Key; Supplier Part Number 1: 565-1387-ND; ComponentLink1Description: Datasheet; ComponentLink1URL: http://www.chemi-con.co.jp/cgi-bin/CAT_DB/SEARCH/cat_db_al.cgi?e=e&j=p&pdfname=kmg; ComponentLink2Description: Digi-Key Listing; ComponentLink2URL: https://www.digikey.com/product-detail/en/united-chemi-con/EKMG201ELL470MK20S/565-1387-ND/755903; Tolerance: 20%; Voltage: 200V; Price: 0; Device Package: Radial, Can, 12.5mm
footprint CAP AL TH D12.5 L5 H21.5
pins: 1, 2

## EKMG250ELL102MJ20S
designator C?, comment 1000uF  (value not drawn)
CAP ALUM 1000UF 20% 25V RADIAL; Part Number: EKMG250ELL102MJ20S; Manufacturer: United Chemi-Con; TemperatureRange: -55C ~ 105C; Type: Polar; Ripple Current: 680mA @ 120Hz; Value: 1000uF; PartId: 25597; Supplier 1: Digi-Key; Supplier Part Number 1: 565-1311-ND; ComponentLink1Description: Datasheet; ComponentLink1URL: http://www.chemi-con.co.jp/cgi-bin/CAT_DB/SEARCH/cat_db_al.cgi?e=e&j=p&pdfname=kmg; ComponentLink2Description: Digi-Key Listing; ComponentLink2URL: https://www.digikey.com/product-detail/en/united-chemi-con/EKMG250ELL102MJ20S/565-1311-ND/755827; Tolerance: 20%; Voltage: 25V; Price: 0.68; Device Package: Radial, Can, 10mm
footprint CAP AL TH D10 L5 H22
pins: 1, 2

## EKMG250ELL222MK25S
designator C?, comment 2200uF  (value not drawn)
CAP ALUM 2200UF 20% 25V RADIAL; Part Number: EKMG250ELL222MK25S; Manufacturer: United Chemi-Con; TemperatureRange: -55C ~ 105C; Type: Polar; Ripple Current: 1.09A @ 120Hz; Value: 2200uF; PartId: 23674; Supplier 1: Digi-Key; Supplier Part Number 1: 565-1312-ND; ComponentLink1Description: Datasheet; ComponentLink1URL: http://www.chemi-con.co.jp/cgi-bin/CAT_DB/SEARCH/cat_db_al.cgi?e=e&j=p&pdfname=kmg; ComponentLink2Description: Digi-Key Listing; ComponentLink2URL: https://www.digikey.com/product-detail/en/united-chemi-con/EKMG250ELL222MK25S/565-1312-ND/755828; Tolerance: 20%; Voltage: 25V; Price: 1; Device Package: Radial, Can, 12.5mm
footprint CAP AL TH D12.5 L5 H26.5
pins: 1, 2

## EKMG250ELL332ML25S
designator C?, comment 3300uF  (value not drawn)
CAP ALUM 3300UF 20% 25V RADIAL; Part Number: EKMG250ELL332ML25S; Manufacturer: United Chemi-Con; TemperatureRange: -55C ~ 105C; Type: Polar; Ripple Current: 1.4A @ 120Hz; Value: 3300uF; PartId: 26619; Supplier 1: Digi-Key; Supplier Part Number 1: 565-1313-ND; ComponentLink1Description: Datasheet; ComponentLink1URL: http://www.chemi-con.co.jp/cgi-bin/CAT_DB/SEARCH/cat_db_al.cgi?e=e&j=p&pdfname=kmg; ComponentLink2Description: Digi-Key Listing; ComponentLink2URL: https://www.digikey.com/product-detail/en/united-chemi-con/EKMG250ELL332ML25S/565-1313-ND/755829; Tolerance: 20%; Voltage: 25V; Price: 1.41; Device Package: Radial, Can, 16mm
footprint CAP AL TH D16 L7.5 H26.5
pins: 1, 2

## EKMG250ELL471MJC5S
designator C?, comment 470uF  (value not drawn)
CAP ALUM 470UF 20% 25V RADIAL; Part Number: EKMG250ELL471MJC5S; Manufacturer: United Chemi-Con; TemperatureRange: -55C ~ 105C; Type: Polar; Ripple Current: 380mA @ 120Hz; Value: 470uF; PartId: 24974; Supplier 1: Digi-Key; Supplier Part Number 1: 565-1310-ND; ComponentLink1Description: Datasheet; ComponentLink1URL: http://www.chemi-con.co.jp/cgi-bin/CAT_DB/SEARCH/cat_db_al.cgi?e=e&j=p&pdfname=kmg; ComponentLink2Description: Digi-Key Listing; ComponentLink2URL: https://www.digikey.com/product-detail/en/united-chemi-con/EKMG250ELL471MJC5S/565-1310-ND/755826; Tolerance: 20%; Voltage: 25V; Price: 0.54; Device Package: Radial, Can, 10mm
footprint CAP AL TH D10 L5 H14.5
pins: 1, 2